# EAGLE library part DG413-SPDT-J (library joakim)
Quad switch, half normally closed/half normally open. Configured as two SPDTs
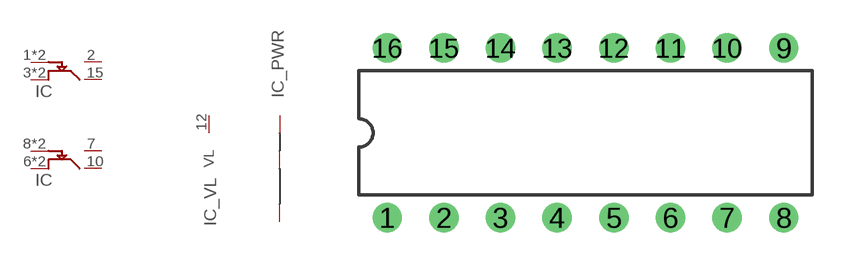
[diagram p69: symbol with the pads of DIL16J; footprint DIL16J]

Designator prefix IC; gates _VL=VL-PWR _PWR=XM8-PWR SW1=SPDT_J SW2=SPDT_J

## DG413-SPDT-J  [DIL16J]
1  SW1:CTRL  pas
2  SW1:NO  pas
3  SW1:COMMON  pas
4  _PWR:-15V  pwr
5  _PWR:AGND  pwr
6  SW2:COMMON  pas
7  SW2:NO  pas
8  SW2:CTRL  pas
9  SW2:CTRL  pas
10  SW2:NC  pas
11  SW2:COMMON  pas
12  _VL:VL
13  _PWR:+15V  pwr
14  SW1:COMMON  pas
15  SW1:NC  pas
16  SW1:CTRL  pas

## Footprint DIL16J (pad centres in mm)
Dual In Line 16
drill 0.813: 1 -8.89,-3.81; 2 -6.35,-3.81; 3 -3.81,-3.81; 4 -1.27,-3.81; 5 1.27,-3.81; 6 3.81,-3.81; 7 6.35,-3.81; 8 8.89,-3.81; 9 8.89,3.81; 10 6.35,3.81; 11 3.81,3.81; 12 1.27,3.81; 13 -1.27,3.81; 14 -3.81,3.81; 15 -6.35,3.81; 16 -8.89,3.81